# EAGLE library part HY2120 (library HY2120)
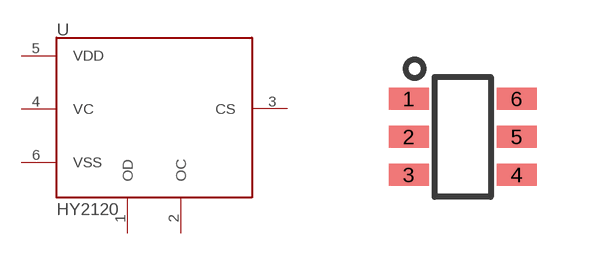
[diagram p0: symbol with the pads of SOT-23-6; footprint SOT-23-6]

Designator prefix -

## HY2120  [SOT-23-6]
1  OD
2  OC
3  CS
4  VC
5  VDD
6  VSS

## Footprint SOT-23-6 (pad centres in mm)
smd 1 x 0.55: 1 -1.35,0.95; 2 -1.35,0; 3 -1.35,-0.95; 4 1.35,-0.95; 5 1.35,0; 6 1.35,0.95